# Altium schematic symbol library PreciseResistors (FR).SchLib: 69 symbols
Pins are listed as number, name and electrical type; pins without a type are passive.

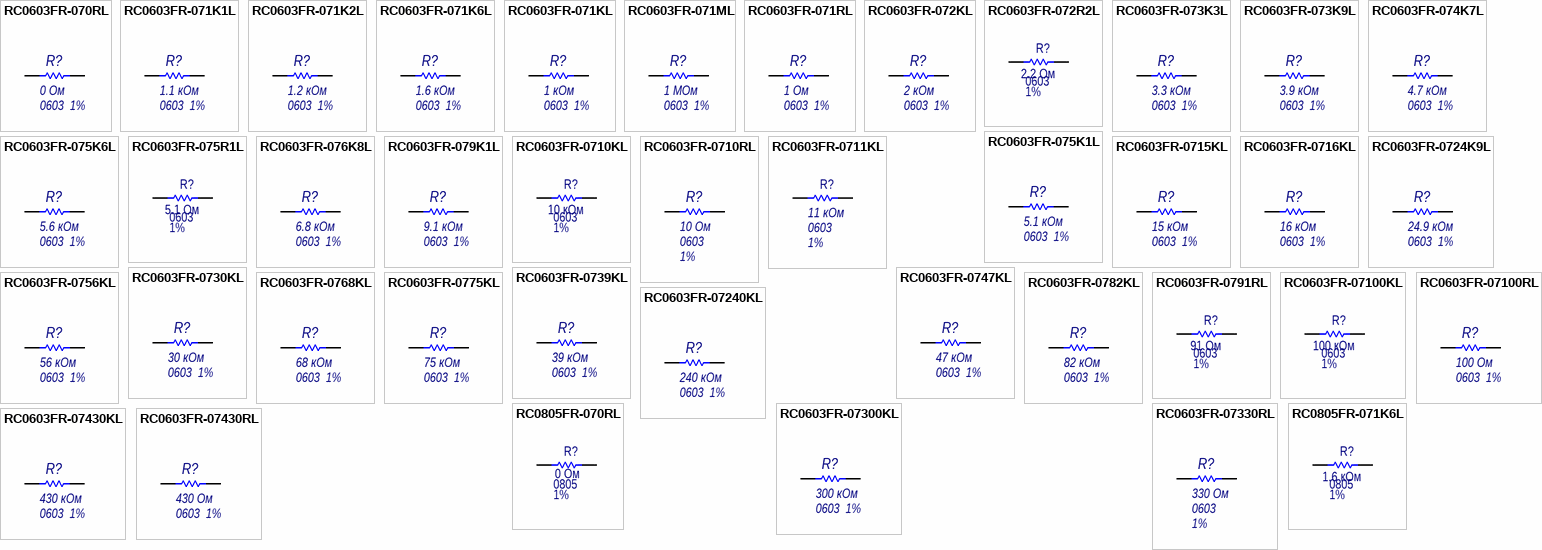
[diagram p0: symbols RC0603FR-070RL to RC0805FR-071K6L]

## RC0603FR-070RL
designator R?  value 0 Ом  Tolerance: 1%  Case: 0603  (hidden comment: RC0603FR-070RL)
footprint RESC1608X04L (Chip Resistor, 2-Leads, Body 1,60x0,85mm, IPC High Density)
footprint RESC1608X04L (Chip Resistor, 2-Leads, Body 1,60x0,85mm, IPC High Density)
pins: 0, 1

## RC0603FR-071K1L
designator R?  value 1.1 кОм  Tolerance: 1%  Case: 0603  (hidden comment: RC0603FR-071K1L)
footprint RES0603 (Chip Resistor, 2-Leads, Body 1,60x0,85mm, IPC High Density)
footprint RESC1608X04L (Chip Resistor, 2-Leads, Body 1,60x0,85mm, IPC High Density)
pins: 0, 1

## RC0603FR-071K2L
designator R?  value 1.2 кОм  Tolerance: 1%  Case: 0603  (hidden comment: RC0603FR-071K2L)
footprint RES0603 (Chip Resistor, 2-Leads, Body 1,60x0,85mm, IPC High Density)
footprint RESC1608X04L (Chip Resistor, 2-Leads, Body 1,60x0,85mm, IPC High Density)
pins: 0, 1

## RC0603FR-071K6L
designator R?  value 1.6 кОм  Tolerance: 1%  Case: 0603  (hidden comment: RC0603FR-071K6L)
footprint RES0603 (Chip Resistor, 2-Leads, Body 1,60x0,85mm, IPC High Density)
footprint RESC1608X04L (Chip Resistor, 2-Leads, Body 1,60x0,85mm, IPC High Density)
pins: 0, 1

## RC0603FR-071KL
designator R?  value 1 кОм  Tolerance: 1%  Case: 0603  (hidden comment: RC0603FR-071KL)
ID: RC0603FR-071KL
footprint RES0603 (Chip Resistor, 2-Leads, Body 1,60x0,85mm, IPC High Density)
footprint RESC1608X04L (Chip Resistor, 2-Leads, Body 1,60x0,85mm, IPC High Density)
pins: 0, 1

## RC0603FR-071ML
designator R?  value 1 МОм  Tolerance: 1%  Case: 0603  (hidden comment: RC0603FR-071ML)
footprint RES0603 (Chip Resistor, 2-Leads, Body 1,60x0,85mm, IPC High Density)
footprint RESC1608X04L (Chip Resistor, 2-Leads, Body 1,60x0,85mm, IPC High Density)
pins: 0, 1

## RC0603FR-071RL
designator R?  value 1 Ом  Tolerance: 1%  Case: 0603  (hidden comment: RC0603FR-071RL)
footprint RES0603 (Chip Resistor, 2-Leads, Body 1,60x0,85mm, IPC High Density)
footprint RESC1608X04L (Chip Resistor, 2-Leads, Body 1,60x0,85mm, IPC High Density)
pins: 0, 1

## RC0603FR-072KL
designator R?  value 2 кОм  Tolerance: 1%  Case: 0603  (hidden comment: RC0603FR-072KL)
ID: RC0603FR-072KL
footprint RES0603 (Chip Resistor, 2-Leads, Body 1,60x0,85mm, IPC High Density)
footprint RESC1608X04L (Chip Resistor, 2-Leads, Body 1,60x0,85mm, IPC High Density)
pins: 0, 1

## RC0603FR-072R2L
designator R?  value 2.2 Ом  Tolerance: 1%  Case: 0603  (hidden comment: RC0603FR-072R2L)
footprint RES0603 (Chip Resistor, 2-Leads, Body 1,60x0,85mm, IPC High Density)
footprint RESC1608X04L (Chip Resistor, 2-Leads, Body 1,60x0,85mm, IPC High Density)
pins: 0, 1

## RC0603FR-073K3L
designator R?  value 3.3 кОм  Tolerance: 1%  Case: 0603  (hidden comment: RC0603FR-073K3L)
footprint RES0603 (Chip Resistor, 2-Leads, Body 1,60x0,85mm, IPC High Density)
footprint RESC1608X04L (Chip Resistor, 2-Leads, Body 1,60x0,85mm, IPC High Density)
pins: 0, 1

## RC0603FR-073K9L
designator R?  value 3.9 кОм  Tolerance: 1%  Case: 0603  (hidden comment: RC0603FR-073K9L)
footprint RES0603 (Chip Resistor, 2-Leads, Body 1,60x0,85mm, IPC High Density)
footprint RESC1608X04L (Chip Resistor, 2-Leads, Body 1,60x0,85mm, IPC High Density)
pins: 0, 1

## RC0603FR-074K7L
designator R?  value 4.7 кОм  Tolerance: 1%  Case: 0603  (hidden comment: RC0603FR-074K7L)
footprint RES0603 (Chip Resistor, 2-Leads, Body 1,60x0,85mm, IPC High Density)
footprint RESC1608X04L (Chip Resistor, 2-Leads, Body 1,60x0,85mm, IPC High Density)
pins: 0, 1

## RC0603FR-075K1L
designator R?  value 5.1 кОм  Tolerance: 1%  Case: 0603  (hidden comment: RC0603FR-075K1L)
ID: RC0603FR-075K1L
footprint RES0603 (Chip Resistor, 2-Leads, Body 1,60x0,85mm, IPC High Density)
footprint RESC1608X04L (Chip Resistor, 2-Leads, Body 1,60x0,85mm, IPC High Density)
pins: 0, 1

## RC0603FR-075K6L
designator R?  value 5.6 кОм  Tolerance: 1%  Case: 0603  (hidden comment: RC0603FR-075K6L)
footprint RES0603 (Chip Resistor, 2-Leads, Body 1,60x0,85mm, IPC High Density)
footprint RESC1608X04L (Chip Resistor, 2-Leads, Body 1,60x0,85mm, IPC High Density)
pins: 0, 1

## RC0603FR-075R1L
designator R?  value 5.1 Ом  Tolerance: 1%  Case: 0603  (hidden comment: RC0603FR-075R1L)
footprint RES0603 (Chip Resistor, 2-Leads, Body 1,60x0,85mm, IPC High Density)
footprint RESC1608X04L (Chip Resistor, 2-Leads, Body 1,60x0,85mm, IPC High Density)
pins: 0, 1

## RC0603FR-076K8L
designator R?  value 6.8 кОм  Tolerance: 1%  Case: 0603  (hidden comment: RC0603FR-076K8L)
ID: RC0603FR-076K8L
footprint RES0603 (Chip Resistor, 2-Leads, Body 1,60x0,85mm, IPC High Density)
footprint RESC1608X04L (Chip Resistor, 2-Leads, Body 1,60x0,85mm, IPC High Density)
pins: 0, 1

## RC0603FR-079K1L
designator R?  value 9.1 кОм  Tolerance: 1%  Case: 0603  (hidden comment: RC0603FR-079K1L)
footprint RES0603 (Chip Resistor, 2-Leads, Body 1,60x0,85mm, IPC High Density)
footprint RESC1608X04L (Chip Resistor, 2-Leads, Body 1,60x0,85mm, IPC High Density)
pins: 0, 1

## RC0603FR-0710KL
designator R?  value 10 кОм  Tolerance: 1%  Case: 0603  (hidden comment: RC0603FR-0710KL)
footprint RES0603 (Chip Resistor, 2-Leads, Body 1,60x0,85mm, IPC High Density)
footprint RESC1608X04L (Chip Resistor, 2-Leads, Body 1,60x0,85mm, IPC High Density)
pins: 0, 1

## RC0603FR-0710RL
designator R?  value 10 Ом  Tolerance: 1%  Case: 0603  (hidden comment: RC0603FR-0710RL)
footprint RES0603 (Chip Resistor, 2-Leads, Body 1,60x0,85mm, IPC High Density)
footprint RESC1608X04L (Chip Resistor, 2-Leads, Body 1,60x0,85mm, IPC High Density)
pins: 0, 1

## RC0603FR-0711KL
designator R?  value 11 кОм  Tolerance: 1%  Case: 0603  (hidden comment: RC0603FR-0711KL)
ID: RC0603FR-0711KL
footprint RES0603 (Chip Resistor, 2-Leads, Body 1,60x0,85mm, IPC High Density)
footprint RESC1608X04L (Chip Resistor, 2-Leads, Body 1,60x0,85mm, IPC High Density)
pins: 0, 1

## RC0603FR-0715KL
designator R?  value 15 кОм  Tolerance: 1%  Case: 0603  (hidden comment: RC0603FR-0715KL)
footprint RES0603 (Chip Resistor, 2-Leads, Body 1,60x0,85mm, IPC High Density)
footprint RESC1608X04L (Chip Resistor, 2-Leads, Body 1,60x0,85mm, IPC High Density)
pins: 0, 1

## RC0603FR-0716KL
designator R?  value 16 кОм  Tolerance: 1%  Case: 0603  (hidden comment: RC0603FR-0716KL)
footprint RES0603 (Chip Resistor, 2-Leads, Body 1,60x0,85mm, IPC High Density)
footprint RESC1608X04L (Chip Resistor, 2-Leads, Body 1,60x0,85mm, IPC High Density)
pins: 0, 1

## RC0603FR-0724K9L
designator R?  value 24.9 кОм  Tolerance: 1%  Case: 0603  (hidden comment: RC0603FR-0724K9L)
footprint RES0603 (Chip Resistor, 2-Leads, Body 1,60x0,85mm, IPC High Density)
footprint RESC1608X04L (Chip Resistor, 2-Leads, Body 1,60x0,85mm, IPC High Density)
pins: 0, 1

## RC0603FR-0730KL
designator R?  value 30 кОм  Tolerance: 1%  Case: 0603  (hidden comment: RC0603FR-0730KL)
footprint RES0603 (Chip Resistor, 2-Leads, Body 1,60x0,85mm, IPC High Density)
footprint RESC1608X04L (Chip Resistor, 2-Leads, Body 1,60x0,85mm, IPC High Density)
pins: 0, 1

## RC0603FR-0739KL
designator R?  value 39 кОм  Tolerance: 1%  Case: 0603  (hidden comment: RC0603FR-0739KL)
footprint RES0603 (Chip Resistor, 2-Leads, Body 1,60x0,85mm, IPC High Density)
footprint RESC1608X04L (Chip Resistor, 2-Leads, Body 1,60x0,85mm, IPC High Density)
pins: 0, 1

## RC0603FR-0747KL
designator R?  value 47 кОм  Tolerance: 1%  Case: 0603  (hidden comment: RC0603FR-0747KL)
footprint RES0603 (Chip Resistor, 2-Leads, Body 1,60x0,85mm, IPC High Density)
footprint RESC1608X04L (Chip Resistor, 2-Leads, Body 1,60x0,85mm, IPC High Density)
pins: 0, 1

## RC0603FR-0756KL
designator R?  value 56 кОм  Tolerance: 1%  Case: 0603  (hidden comment: RC0603FR-0756KL)
ID: RC0603FR-0756KL
footprint RES0603 (Chip Resistor, 2-Leads, Body 1,60x0,85mm, IPC High Density)
footprint RESC1608X04L (Chip Resistor, 2-Leads, Body 1,60x0,85mm, IPC High Density)
pins: 0, 1

## RC0603FR-0768KL
designator R?  value 68 кОм  Tolerance: 1%  Case: 0603  (hidden comment: RC0603FR-0768KL)
footprint RES0603 (Chip Resistor, 2-Leads, Body 1,60x0,85mm, IPC High Density)
footprint RESC1608X04L (Chip Resistor, 2-Leads, Body 1,60x0,85mm, IPC High Density)
pins: 0, 1

## RC0603FR-0775KL
designator R?  value 75 кОм  Tolerance: 1%  Case: 0603  (hidden comment: RC0603FR-0775KL)
footprint RES0603 (Chip Resistor, 2-Leads, Body 1,60x0,85mm, IPC High Density)
footprint RESC1608X04L (Chip Resistor, 2-Leads, Body 1,60x0,85mm, IPC High Density)
pins: 0, 1

## RC0603FR-0782KL
designator R?  value 82 кОм  Tolerance: 1%  Case: 0603  (hidden comment: RC0603FR-0782KL)
footprint RES0603 (Chip Resistor, 2-Leads, Body 1,60x0,85mm, IPC High Density)
footprint RESC1608X04L (Chip Resistor, 2-Leads, Body 1,60x0,85mm, IPC High Density)
pins: 0, 1

## RC0603FR-0791RL
designator R?  value 91 Ом  Tolerance: 1%  Case: 0603  (hidden comment: RC0603FR-0791RL)
footprint RES0603 (Chip Resistor, 2-Leads, Body 1,60x0,85mm, IPC High Density)
footprint RESC1608X04L (Chip Resistor, 2-Leads, Body 1,60x0,85mm, IPC High Density)
pins: 0, 1

## RC0603FR-07100KL
designator R?  value 100 кОм  Tolerance: 1%  Case: 0603  (hidden comment: RC0603FR-07100KL)
footprint RES0603 (Chip Resistor, 2-Leads, Body 1,60x0,85mm, IPC High Density)
footprint RESC1608X04L (Chip Resistor, 2-Leads, Body 1,60x0,85mm, IPC High Density)
pins: 0, 1

## RC0603FR-07100RL
designator R?  value 100 Ом  Tolerance: 1%  Case: 0603  (hidden comment: RC0603FR-07100RL)
footprint RES0603 (Chip Resistor, 2-Leads, Body 1,60x0,85mm, IPC High Density)
footprint RESC1608X04L (Chip Resistor, 2-Leads, Body 1,60x0,85mm, IPC High Density)
pins: 0, 1

## RC0603FR-07240KL
designator R?  value 240 кОм  Tolerance: 1%  Case: 0603  (hidden comment: RC0603FR-07240KL)
footprint RES0603 (Chip Resistor, 2-Leads, Body 1,60x0,85mm, IPC High Density)
footprint RESC1608X04L (Chip Resistor, 2-Leads, Body 1,60x0,85mm, IPC High Density)
pins: 0, 1

## RC0603FR-07300KL
designator R?  value 300 кОм  Tolerance: 1%  Case: 0603  (hidden comment: RC0603FR-07300KL)
footprint RES0603 (Chip Resistor, 2-Leads, Body 1,60x0,85mm, IPC High Density)
footprint RESC1608X04L (Chip Resistor, 2-Leads, Body 1,60x0,85mm, IPC High Density)
pins: 0, 1

## RC0603FR-07330RL
designator R?  value 330 Ом  Tolerance: 1%  Case: 0603  (hidden comment: RC0603FR-07330RL)
footprint RES0603 (Chip Resistor, 2-Leads, Body 1,60x0,85mm, IPC High Density)
footprint RESC1608X04L (Chip Resistor, 2-Leads, Body 1,60x0,85mm, IPC High Density)
pins: 0, 1

## RC0603FR-07430KL
designator R?  value 430 кОм  Tolerance: 1%  Case: 0603  (hidden comment: RC0603FR-07430KL)
footprint RES0603 (Chip Resistor, 2-Leads, Body 1,60x0,85mm, IPC High Density)
footprint RESC1608X04L (Chip Resistor, 2-Leads, Body 1,60x0,85mm, IPC High Density)
pins: 0, 1

## RC0603FR-07430RL
designator R?  value 430 Ом  Tolerance: 1%  Case: 0603  (hidden comment: RC0603FR-07430RL)
footprint RES0603 (Chip Resistor, 2-Leads, Body 1,60x0,85mm, IPC High Density)
footprint RESC1608X04L (Chip Resistor, 2-Leads, Body 1,60x0,85mm, IPC High Density)
pins: 0, 1

## RC0805FR-070RL
designator R?  value 0 Ом  Tolerance: 1%  Case: 0805  (hidden comment: RC0805FR-070RL)
footprint RES0805
pins: 1, 2

## RC0805FR-071K6L
designator R?  value 1.6 кОм  Tolerance: 1%  Case: 0805  (hidden comment: RC0805FR-071K6L)
footprint RES0805
pins: 1, 2

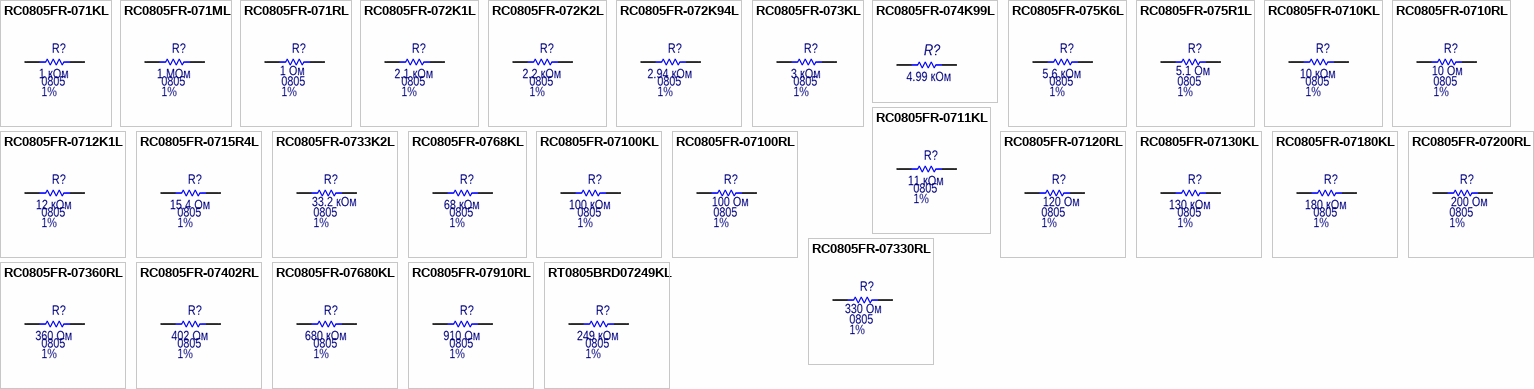
[diagram p1: symbols RC0805FR-071KL to RT0805BRD07249KL]

## RC0805FR-071KL
designator R?  value 1 кОм  Tolerance: 1%  Case: 0805  (hidden comment: RC0805FR-071KL)
footprint RES0805
pins: 1, 2

## RC0805FR-071ML
designator R?  value 1 МОм  Tolerance: 1%  Case: 0805  (hidden comment: RC0805FR-071ML)
footprint RES0805
pins: 1, 2

## RC0805FR-071RL
designator R?  value 1 Ом  Tolerance: 1%  Case: 0805  (hidden comment: RC0805FR-071RL)
footprint RES0805
pins: 1, 2

## RC0805FR-072K1L
designator R?  value 2.1 кОм  Tolerance: 1%  Case: 0805  (hidden comment: RC0805FR-072K1L)
footprint RES0805
pins: 1, 2

## RC0805FR-072K2L
designator R?  value 2.2 кОм  Tolerance: 1%  Case: 0805  (hidden comment: RC0805FR-072K2L)
footprint RES0805
pins: 1, 2

## RC0805FR-072K94L
designator R?  value 2.94 кОм  Tolerance: 1%  Case: 0805  (hidden comment: RC0805FR-072K94L)
footprint RES0805
pins: 1, 2

## RC0805FR-073KL
designator R?  value 3 кОм  Tolerance: 1%  Case: 0805  (hidden comment: RC0805FR-073KL)
footprint RES0805
pins: 1, 2

## RC0805FR-074K99L
designator R?  value 4.99 кОм  (hidden comment: RC0805FR-074K99L)
Tolerance: 1%; Case: 0805
footprint RES0805
pins: 1, 2

## RC0805FR-075K6L
designator R?  value 5.6 кОм  Tolerance: 1%  Case: 0805  (hidden comment: RC0805FR-075K6L)
footprint RES0805
pins: 1, 2

## RC0805FR-075R1L
designator R?  value 5.1 Ом  Tolerance: 1%  Case: 0805  (hidden comment: RC0805FR-075R1L)
footprint RES0805
pins: 1, 2

## RC0805FR-0710KL
designator R?  value 10 кОм  Tolerance: 1%  Case: 0805  (hidden comment: RC0805FR-0710KL)
footprint RES0805
pins: 1, 2

## RC0805FR-0710RL
designator R?  value 10 Ом  Tolerance: 1%  Case: 0805  (hidden comment: RC0805FR-0710RL)
footprint RES0805
pins: 1, 2

## RC0805FR-0711KL
designator R?  value 11 кОм  Tolerance: 1%  Case: 0805  (hidden comment: RC0805FR-0711KL)
footprint RES0805
pins: 1, 2

## RC0805FR-0712K1L
designator R?  value 12 кОм  Tolerance: 1%  Case: 0805  (hidden comment: RC0805FR-0712K1L)
footprint RES0805
pins: 1, 2

## RC0805FR-0715R4L
designator R?  value 15.4 Ом  Tolerance: 1%  Case: 0805  (hidden comment: RC0805FR-0715R4L)
footprint RES0805
pins: 1, 2

## RC0805FR-0733K2L
designator R?  value 33.2 кОм  Tolerance: 1%  Case: 0805  (hidden comment: RC0805FR-0733K2L)
footprint RES0805
pins: 1, 2

## RC0805FR-0768KL
designator R?  value 68 кОм  Tolerance: 1%  Case: 0805  (hidden comment: RC0805FR-0768KL)
footprint RES0805
pins: 1, 2

## RC0805FR-07100KL
designator R?  value 100 кОм  Tolerance: 1%  Case: 0805  (hidden comment: RC0805FR-07100KL)
footprint RES0805
pins: 1, 2

## RC0805FR-07100RL
designator R?  value 100 Ом  Tolerance: 1%  Case: 0805  (hidden comment: RC0805FR-07100RL)
footprint RES0805
pins: 1, 2

## RC0805FR-07120RL
designator R?  value 120 Ом  Tolerance: 1%  Case: 0805  (hidden comment: RC0805FR-07120RL)
footprint RES0805
pins: 1, 2

## RC0805FR-07130KL
designator R?  value 130 кОм  Tolerance: 1%  Case: 0805  (hidden comment: RC0805FR-07130KL)
footprint RES0805
pins: 1, 2

## RC0805FR-07180KL
designator R?  value 180 кОм  Tolerance: 1%  Case: 0805  (hidden comment: RC0805FR-07180KL)
footprint RES0805
pins: 1, 2

## RC0805FR-07200RL
designator R?  value 200 Ом  Tolerance: 1%  Case: 0805  (hidden comment: RC0805FR-07200RL)
footprint RES0805
pins: 1, 2

## RC0805FR-07330RL
designator R?  value 330 Ом  Tolerance: 1%  Case: 0805  (hidden comment: RC0805FR-07330RL)
footprint RES0805
pins: 1, 2

## RC0805FR-07360RL
designator R?  value 360 Ом  Tolerance: 1%  Case: 0805  (hidden comment: RC0805FR-07360RL)
footprint RES0805
pins: 1, 2

## RC0805FR-07402RL
designator R?  value 402 Ом  Tolerance: 1%  Case: 0805  (hidden comment: RC0805FR-07402RL)
footprint RES0805
pins: 1, 2

## RC0805FR-07680KL
designator R?  value 680 кОм  Tolerance: 1%  Case: 0805  (hidden comment: RC0805FR-07680KL)
footprint RES0805
pins: 1, 2

## RC0805FR-07910RL
designator R?  value 910 Ом  Tolerance: 1%  Case: 0805  (hidden comment: RC0805FR-07910RL)
footprint RES0805
pins: 1, 2

## RT0805BRD07249KL
designator R?  value 249 кОм  Tolerance: 1%  Case: 0805  (hidden comment: RT0805BRD07249KL)
footprint RES0805
pins: 1, 2